# EAGLE library part OPAMP-DUAL (library Op Amps)
Operational amplifier, dual
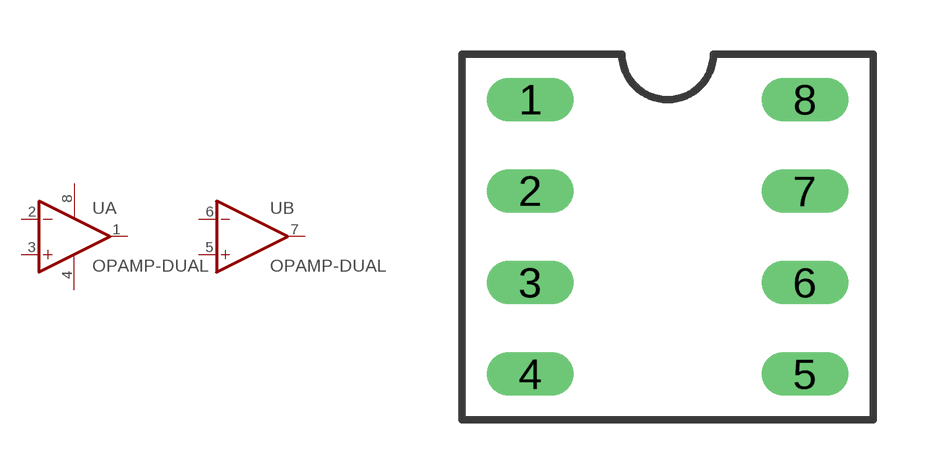
[diagram p0: symbol with the pads of DIP8; footprint DIP8]

Designator prefix U; gates A=OPAMP B=OPAMP SUP=OPAMPPWR

## OPAMP-DUAL (SPICE: X{NAME}A {A.IN+.NET} {A.IN-.NET} {VCC.NET} {VEE.NET} {A.OUT.NET} OPAMP\nX{NAME}B {B.IN+.NET} {B.IN-.NET} {VCC.NET} {VEE.NET} {B.OUT.NET} OPAMP; SPICEMOD: .SUBCKT OPAMP 1 2 101 102 81\n.model NPN NPN(BF=50000)\nQ1 5 1 7 NPN\nQ2 6 2 8 NPN\nRC1 101 5 95.49\nRC2 101 6 95.49\nRE1 7 4 43.79\nRE2 8 4 43.79\nI1 4 102 0.001\nG1 100 10 6 5 0.0104719\nRP1 10 100 9.549MEG\nCP1 10 100 0.0016667UF\nEOUT 80 100 10 100 1\nRO 80 81 100\nRREF1 101 103 100K\nRREF2 103 102 100K\nEREF 100 0 103 0 1\nR100 100 0 1MEG\n.ENDS)  [DIP8]
1  A:OUT  out
2  A:IN-  in
3  A:IN+  in
4  SUP:VEE  pwr
5  B:IN+  in
6  B:IN-  in
7  B:OUT  out
8  SUP:VCC  pwr

## OPAMP-DUALTL062 (SPICE: X{NAME}A {A.IN+.NET} {A.IN-.NET} {VCC.NET} {VEE.NET} {A.OUT.NET} TL062\nX{NAME}B {B.IN+.NET} {B.IN-.NET} {VCC.NET} {VEE.NET} {B.OUT.NET} TL062; SPICEMOD: .SUBCKT TL062 1 2 3 4 5\nC1 11 12 3.498E-12\nC2 6 7 15.00E-12\nDC 5 53 DX\nDE 54 5 DX\nDLP 90 91 DX\nDLN 92 90 DX\nDP 4 3 DX\nEGND 99 0 POLY(2) (3,0) (4,0) 0 .5 .5\nFB 7 99 POLY(5) VB VC VE VLP VLN 0 318.3E3 -300E3 300E3 300E3 -300E3\nGA 6 0 11 12 94.26E-6\nGCM 0 6 10 99 1.607E-9\nISS 3 10 DC 52.50E-6\nHLIM 90 0 VLIM 1K\nJ1 11 2 10 JX\nJ2 12 1 10 JX\nR2 6 9 100.0E3\nRD1 4 11 10.61E3\nRD2 4 12 10.61E3\nRO1 8 5 200\nRO2 7 99 200\nRP 3 4 150.0E3\nRSS 10 99 3.810E6\nVB 9 0 DC 0\nVC 3 53 DC 2.200\nVE 54 4 DC 2.200\nVLIM 7 8 DC 0\nVLP 91 0 DC 15\nVLN 0 92 DC 15\n.MODEL DX D(IS=800.0E-18)\n.MODEL JX PJF(IS=15.00E-12 BETA=100.5E-6 VTO=-1)\n.ENDS)  [DIP8]
Pads as for DIP8

## OPAMP-DUALTL072 (SPICE: X{NAME}A {A.IN+.NET} {A.IN-.NET} {VCC.NET} {VEE.NET} {A.OUT.NET} TL072\nX{NAME}B {B.IN+.NET} {B.IN-.NET} {VCC.NET} {VEE.NET} {B.OUT.NET} TL072; SPICEMOD: .SUBCKT TL072 1 2 3 4 5\nC1 11 12 3.498E-12\nC2 6 7 15.00E-12\nDC 5 53 DX\nDE 54 5 DX\nDLP 90 91 DX\nDLN 92 90 DX\nDP 4 3 DX\nEGND 99 0 POLY(2) (3,0) (4,0) 0 .5 .5\nFB 7 99 POLY(5) VB VC VE VLP VLN 0 4.715E6 -5E6 5E6 5E6 -5E6\nGA 6 0 11 12 282.8E-6\nGCM 0 6 10 99 8.942E-9\nISS 3 10 DC 195.0E-6\nHLIM 90 0 VLIM 1K\nJ1 11 2 10 JX\nJ2 12 1 10 JX\nR2 6 9 100.0E3\nRD1 4 11 3.536E3\nRD2 4 12 3.536E3\nRO1 8 5 150\nRO2 7 99 150\nRP 3 4 2.143E3\nRSS 10 99 1.026E6\nVB 9 0 DC 0\nVC 3 53 DC 2.200\nVE 54 4 DC 2.200\nVLIM 7 8 DC 0\nVLP 91 0 DC 25\nVLN 0 92 DC 25\n.MODEL DX D(IS=800.0E-18)\n.MODEL JX PJF(IS=15.00E-12 BETA=270.1E-6 VTO=-1)\n.ENDS)  [DIP8]
Pads as for DIP8

## OPAMP-DUALTL082 (SPICE: X{NAME}A {A.IN+.NET} {A.IN-.NET} {VCC.NET} {VEE.NET} {A.OUT.NET} TL082\nX{NAME}B {B.IN+.NET} {B.IN-.NET} {VCC.NET} {VEE.NET} {B.OUT.NET} TL082; SPICEMOD: .SUBCKT TL082 1 2 3 4 5\nC1 11 12 3.498E-12\nC2 6 7 15.00E-12\nDC 5 53 DX\nDE 54 5 DX\nDLP 90 91 DX\nDLN 92 90 DX\nDP 4 3 DX\nEGND 99 0 POLY(2) (3,0) (4,0) 0 .5 .5\nFB 7 99 POLY(5) VB VC VE VLP VLN 0 4.715E6 -5E6 5E6 5E6 -5E6\nGA 6 0 11 12 282.8E-6\nGCM 0 6 10 99 8.942E-9\nISS 3 10 DC 195.0E-6\nHLIM 90 0 VLIM 1K\nJ1 11 2 10 JX\nJ2 12 1 10 JX\nR2 6 9 100.0E3\nRD1 4 11 3.536E3\nRD2 4 12 3.536E3\nRO1 8 5 150\nRO2 7 99 150\nRP 3 4 2.143E3\nRSS 10 99 1.026E6\nVB 9 0 DC 0\nVC 3 53 DC 2.200\nVE 54 4 DC 2.200\nVLIM 7 8 DC 0\nVLP 91 0 DC 25\nVLN 0 92 DC 25\n.MODEL DX D(IS=800.0E-18)\n.MODEL JX PJF(IS=15.00E-12 BETA=270.1E-6 VTO=-1)\n.ENDS)  [DIP8]
Pads as for DIP8

## OPAMP-DUALRC4558 (SPICE: X{NAME}A {A.IN+.NET} {A.IN-.NET} {VCC.NET} {VEE.NET} {A.OUT.NET} RC4558\nX{NAME}B {B.IN+.NET} {B.IN-.NET} {VCC.NET} {VEE.NET} {B.OUT.NET} RC4558\nX{NAME}C {C.IN+.NET} {C.IN-.NET} {VCC.NET} {VEE.NET} {C.OUT.NET} RC4558\nX{NAME}D {D.IN+.NET} {D.IN-.NET} {VCC.NET} {VEE.NET} {D.OUT.NET} RC4558; SPICEMOD: .SUBCKT RC4558 1 2 3 4 5\nC1 11 12 2.664E-12\nC2 6 7 20.00E-12\nDC 5 53 DX\nDE 54 5 DX\nDLP 90 91 DX\nDLN 92 90 DX\nDP 4 3 DX\nEGND 99 0 POLY(2) (3,0) (4,0) 0 .5 .5\nFB 7 99 POLY(5) VB VC VE VLP VLN 0 6.365E6 -6E6 6E6 6E6 -6E6\nGA 6 0 11 12 418.0E-6\nGCM 0 6 10 99 6.705E-9\nIEE 3 10 DC 34.28E-6\nHLIM 90 0 VLIM 1K\nQ1 11 2 13 QX\nQ2 12 1 14 QX\nR2 6 9 100.0E3\nRC1 4 11 2.652E3\nRC2 4 12 2.652E3\nRE1 13 10 1.122E3\nRE2 14 10 1.122E3\nREE 10 99 5.834E6\nRO1 8 5 125\nRO2 7 99 125\nRP 3 4 24.67E3\nVB 9 0 DC 0\nVC 3 53 DC 2.600\nVE 54 4 DC 2.600\nVLIM 7 8 DC 0\nVLP 91 0 DC 25\nVLN 0 92 DC 25\n.MODEL DX D(IS=800.0E-18)\n.MODEL QX PNP(IS=800.0E-18 BF=121.4)\n.ENDS)  [DIP8]
Pads as for DIP8

## Footprint DIP8 (pad centres in mm)
DIP8
drill 0.7 long: 1 0,2.54; 2 0,0; 3 0,-2.54; 4 0,-5.08; 5 7.62,-5.08; 6 7.62,-2.54; 7 7.62,0; 8 7.62,2.54